# Altium schematic symbol library 1755545.SchLib: 1 symbol
Pins are listed as number, name and electrical type; pins without a type are passive.

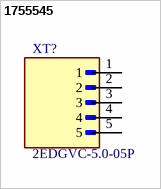
[diagram p0: symbol 1755545]

## 1755545
designator XT?, comment 2EDGVC-5.0-05P
Male connector on board; MP: 1755545; Package: None; Price: None; Value: *; Availability: Unavailable
footprint 1755545 (Footprint not found)
pins: 1, 2, 3, 4, 5